# Altium footprint library BHKSPRE.PcbLib: 29 footprints (part 2 of 2)
Each footprint in its own frame and in the unit in brackets; x right, y up, seen from the top. Pads: shape width x height; smd on the part's side, far side on the other; paste and mask are expansions set on the pad; w line width, h text height; cw(c..) or ccw(c..) is an arc to the next point about the centre after c.
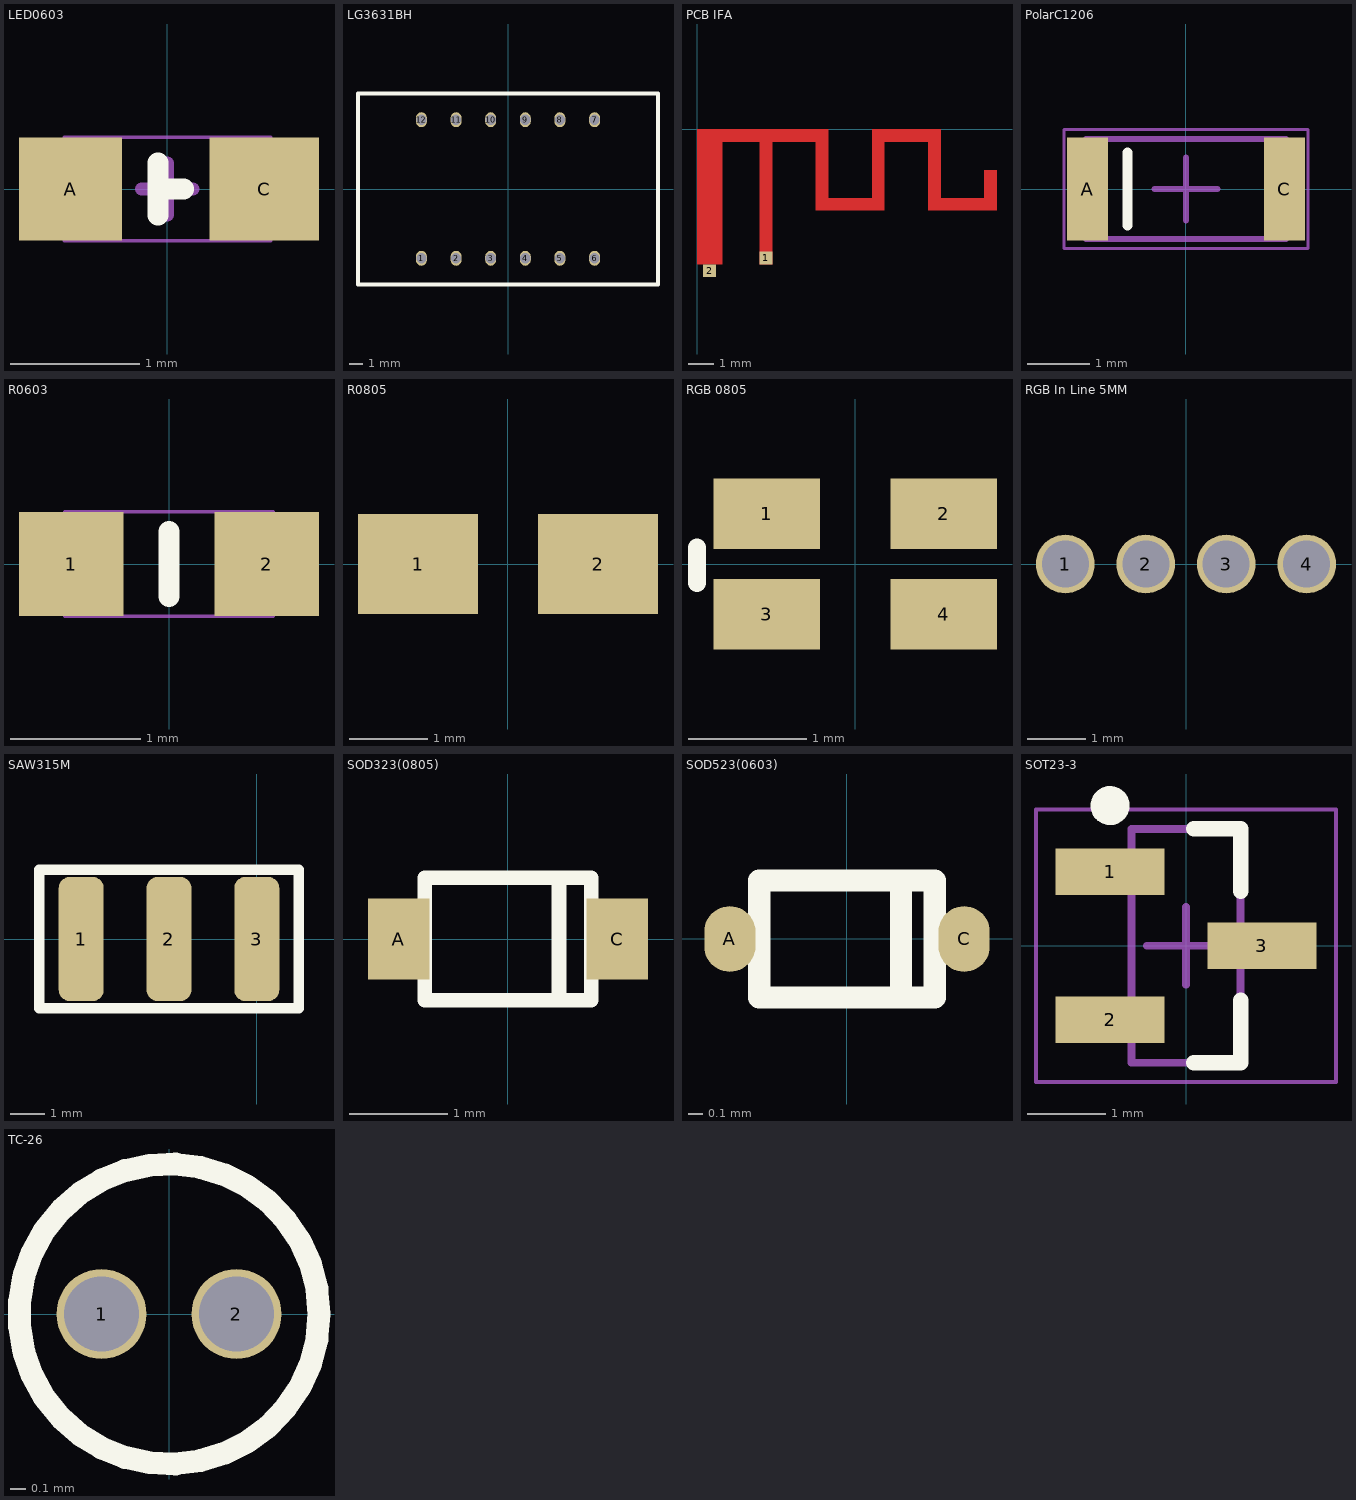
[diagram p1: the footprints below, top view; thin cyan lines are the x and y axes]

## LED0603 [mm]
pads (2):
  rect 0.8x0.8 smd: A(-0.75,0)
  rect 0.85x0.8 smd: C(0.75,0)
Top Overlay:
  lines w0.16: -0.073,-0.203 -0.073,0.203 ; -0.073,0 0.127,0
Mechanical 1:
  lines w0.1: -0.2,0 0.2,0 ; 0,-0.2 0,0.2
Mechanical 13:
  lines w0.025: -0.8,-0.4 -0.8,0.4 0.8,0.4 0.8,-0.4 -0.8,-0.4
3D body: height 0.8, standoff 0, extent -0.8,-0.4 0.8,0.4

## LG3631BH [mm]
pads (12):
  oval 0.8x1.1 hole 0.75: 1(-6.35,-5.08) 2(-3.81,-5.08) 3(-1.27,-5.08) 4(1.27,-5.08) 5(3.81,-5.08) 6(6.35,-5.08) 7(6.35,5.08) 8(3.81,5.08) 9(1.27,5.08) 10(-1.27,5.08) 11(-3.81,5.08) 12(-6.35,5.08)
Top Overlay:
  lines w0.3: -11,-7 -11,7 11,7 11,-7 -11,-7
3D body: height 2, standoff -1.6, extent 3.624,-5.278 4.074,-4.888
3D body: height 2, standoff -1.6, extent 6.164,-5.278 6.614,-4.888
3D body: height 2, standoff -1.6, extent -6.575,-5.275 -6.125,-4.885
3D body: height 2, standoff -1.6, extent -4.035,-5.275 -3.585,-4.885
3D body: height 2, standoff -1.6, extent -1.495,-5.275 -1.045,-4.885
3D body: height 2, standoff -1.6, extent 1.045,-5.275 1.495,-4.885
3D body: height 2, standoff -1.6, extent -6.575,4.885 -6.125,5.275
3D body: height 2, standoff -1.6, extent -4.035,4.885 -3.585,5.275
3D body: height 2, standoff -1.6, extent -1.495,4.885 -1.045,5.275
3D body: height 2, standoff -1.6, extent 1.045,4.885 1.495,5.275
3D body: height 2, standoff -1.6, extent 3.585,4.885 4.035,5.275
3D body: height 7.3, standoff 7.2, extent 8.867,0.252 9.803,4.505
3D body: height 7.3, standoff 7.2, extent 8.53,-4.453 9.531,0.174
3D body: height 7.3, standoff 7.2, extent 4.234,-4.632 8.795,-4.107
3D body: height 7.3, standoff 7.2, extent 4.008,-4.272 4.92,0.234
3D body: height 7.3, standoff 7.2, extent 4.803,-0.096 9.22,0.537
3D body: height 7.3, standoff 7.2, extent 4.483,0.321 5.414,4.644
3D body: height 7.3, standoff 7.2, extent 9.823,-4.476 10.338,-3.96
3D body: height 7.3, standoff 7.2, extent 5.199,4.218 9.519,4.889
3D body: height 7.3, standoff 7.2, extent 2.037,0.197 2.973,4.45
3D body: height 7.3, standoff 7.2, extent 1.7,-4.508 2.701,0.119
3D body: height 7.3, standoff 7.2, extent -2.596,-4.687 1.965,-4.162
3D body: height 7.3, standoff 7.2, extent -2.822,-4.327 -1.91,0.179
3D body: height 7.3, standoff 7.2, extent -2.027,-0.151 2.39,0.482
3D body: height 7.3, standoff 7.2, extent -2.347,0.266 -1.416,4.589
3D body: height 7.3, standoff 7.2, extent 2.993,-4.531 3.508,-4.015
3D body: height 7.3, standoff 7.2, extent -1.631,4.163 2.689,4.834
3D body: height 7.3, standoff 7.2, extent -5.096,0.197 -4.16,4.45
3D body: height 7.3, standoff 7.2, extent -5.433,-4.508 -4.432,0.119
3D body: height 7.3, standoff 7.2, extent -9.729,-4.687 -5.168,-4.162
3D body: height 7.3, standoff 7.2, extent -9.955,-4.327 -9.043,0.179
3D body: height 7.3, standoff 7.2, extent -9.16,-0.151 -4.743,0.482
3D body: height 7.3, standoff 7.2, extent -9.48,0.266 -8.549,4.589
3D body: height 7.3, standoff 7.2, extent -4.14,-4.531 -3.625,-4.015
3D body: height 7.3, standoff 7.2, extent -8.764,4.163 -4.444,4.834
3D body: height 7.2, standoff 1, extent -10.983,-6.988 10.988,7.003
3D body: height 2, standoff -1.6, extent 6.125,4.885 6.575,5.275
3D body: height 1, standoff 0, extent -10.983,4.497 -8.16,7.003
3D body: height 1, standoff 0, extent 8.482,4.18 10.988,7.003
3D body: height 1, standoff 0, extent 8.165,-6.988 10.988,-4.482
3D body: height 1, standoff 0, extent -10.983,-6.988 -8.477,-4.165

## PCB IFA [mm]
pads (2):
  rect 0.5x0.5 smd: 1(2.7,-5.05) 2(0.49,-5.55)
Top Layer:
  rectangle: 9.05,-3.2 9.55,0
  region: 11.75,-3.2 11.75,-2.7 9.05,-2.7 9.05,-3.2
  rectangle: 4.65,-3.2 5.15,0
  rectangle: 0,-0.5 2.95,0
  rectangle: 2.45,-5.3 2.95,0
  rectangle: 0,-5.3 1,0
  region: 5.15,-0.5 5.15,0 2.45,0 2.45,-0.5
  region: 7.35,-3.2 7.35,-2.7 4.65,-2.7 4.65,-3.2
  region: 6.85,0 6.85,-0.5 9.55,-0.5 9.55,0
  rectangle: 6.85,-3.2 7.35,0
  region: 11.75,-1.6 11.25,-1.6 11.25,-3.2 11.75,-3.2

## PolarC1206 [mm]
pads (2):
  rect 0.65x1.65 smd: A(-1.575,0) C(1.575,0)
Top Overlay:
  lines w0.16: -0.94,-0.584 -0.94,0.584
Mechanical 13:
  lines w0.1: -1.6,-0.8 1.6,-0.8 1.6,0.8 -1.6,0.8 -1.6,-0.8
Mechanical 15:
  lines w0.05: -1.95,-0.95 1.95,-0.95 1.95,0.95 -1.95,0.95 -1.95,-0.95
  lines w0.1: -0.5,0 0.5,0 ; 0,-0.5 0,0.5
3D body: height 0.6, standoff 0, extent -1.6,-0.8 -1.3,0.8
3D body: height 0.6, standoff 0, extent -1.3,-0.8 1.6,0.8

## R0603 [mm]
pads (2):
  rect 0.8x0.8 smd: 1(-0.75,0) 2(0.75,0)
Top Overlay:
  lines w0.16: 0,-0.25 0,0.25
Mechanical 13:
  lines w0.025: -0.8,-0.4 0.8,-0.4 0.8,0.4 -0.8,0.4 -0.8,-0.4
3D body: height 0.5, standoff 0, extent -0.8,-0.4 0.8,0.4

## R0805 [mil]
pads (2):
  rect 60x50 smd: 1(-45,0) 2(45,0)
3D body: height 31.5, standoff 0, extent -51.97,-25.2 54.72,25.2

## RGB 0805 [mm]
pads (4):
  rect 0.9x0.6 smd: 1(-0.75,0.425) 2(0.75,0.425) 3(-0.75,-0.425) 4(0.75,-0.425)
Top Overlay:
  lines w0.15: -1.34,-0.16 -1.34,0.14
3D body: height 0.38, standoff 0.17, extent -0.538,0.15 -0.162,0.5
3D body: height 0.17, standoff 0, extent -0.825,-0.8 0.775,0.8
3D body: height 0.38, standoff 0.17, extent 0.012,0.15 0.388,0.5
3D body: height 0.38, standoff 0.17, extent -0.144,-0.337 0.144,-0.062

## RGB In Line 5MM [mm]
pads (4):
  round 1 hole 0.8: 1(-2.055,0) 2(-0.685,0) 3(0.685,0) 4(2.055,0)
3D body: height 25, standoff -4, extent 1.805,-0.3 2.305,0.3
3D body: height 25, standoff -4, extent 0.435,-0.3 0.935,0.3
3D body: height 25, standoff -5.5, extent -0.935,-0.3 -0.435,0.3
3D body: height 25, standoff -4, extent -2.3,-0.3 -1.8,0.3
3D body: height 26, standoff 25, extent -2.877,-2.894 2.9,2.894
3D body: height 32.2, standoff 26, extent -2.47,-2.485 2.49,2.485
3D body: height 34.8, standoff 29.8, extent -2.474,-2.489 2.5,2.49

## SAW315M [mm]
pads (3):
  rrect50% 1.3x3.6 smd: 1(-5.08,0) 2(-2.54,0) 3(0,0)
Top Overlay:
  lines w0.3: -6.29,-2 1.21,-2 1.21,2 -6.29,2 -6.29,-2

## SOD323(0805) [mm]
pads (2):
  rect 0.63x0.83 smd: A(-1.115,0) C(1.115,0)
Top Overlay:
  lines w0.15: 0.52,-0.61 0.52,0.62 ; -0.85,-0.625 -0.85,0.625 0.85,0.625 0.85,-0.625 -0.85,-0.625
3D body: height 0.9, standoff 0, extent 0.53,-0.63 0.86,0.625
3D body: height 1.1, standoff 0.9, extent 0.53,-0.63 0.86,0.625
3D body: height 1.1, standoff 0, extent -0.85,-0.625 0.53,0.625

## SOD523(0603) [mm]
pads (2):
  oval 0.35x0.45 smd: A(-0.8,0) C(0.8,0)
Top Overlay:
  lines w0.15: 0.37,-0.39 0.37,0.385
  lines w0.152: -0.6,-0.4 0.6,-0.4 0.6,0.4 -0.6,0.4 -0.6,-0.4
3D body: height 0.6, standoff 0.5, extent 0.3,-0.4 0.4,0.4
3D body: height 0.5, standoff 0, extent 0.3,-0.4 0.4,0.4
3D body: height 0.2, standoff 0, extent -0.9,-0.1 -0.6,0.1
3D body: height 0.2, standoff 0, extent 0.6,-0.1 0.9,0.1
3D body: height 0.6, standoff 0, extent -0.6,-0.4 0.3,0.4
3D body: height 0.6, standoff 0, extent 0.4,-0.4 0.6,0.4

## SOT23-3 [mm]
pads (3):
  rect 1.4x0.6 smd: 1(-0.975,0.95) 2(-0.975,-0.95) 3(0.975,0)
Top Overlay:
  circle w0.25: c-0.975,1.8 r0.125
  lines w0.2: 0.1,-1.5 0.7,-1.5 0.7,-0.7 ; 0.1,1.5 0.7,1.5 0.7,0.7
Mechanical 13:
  lines w0.1: -0.7,-1.5 -0.7,1.5 0.7,1.5 0.7,-1.5 -0.7,-1.5
Mechanical 15:
  lines w0.05: -1.925,-1.75 -1.925,1.75 1.925,1.75 1.925,-1.75 -1.925,-1.75
  lines w0.1: -0.5,0 0.5,0 ; 0,-0.5 0,0.5
3D body: height 1, standoff 0.01, extent -0.7,-1.5 0.7,1.5

## TC-26 [mm]
pads (2):
  round 0.6 hole 0.5: 1(-0.45,0) 2(0.45,0)
Top Overlay:
  circle w0.152: c0,0 r1